# EAGLE library part PIC16F1828 (library _mtvl_ic)
PIC16F1828 20-Pin Flash Microcontrollers with nanoWatt Technology
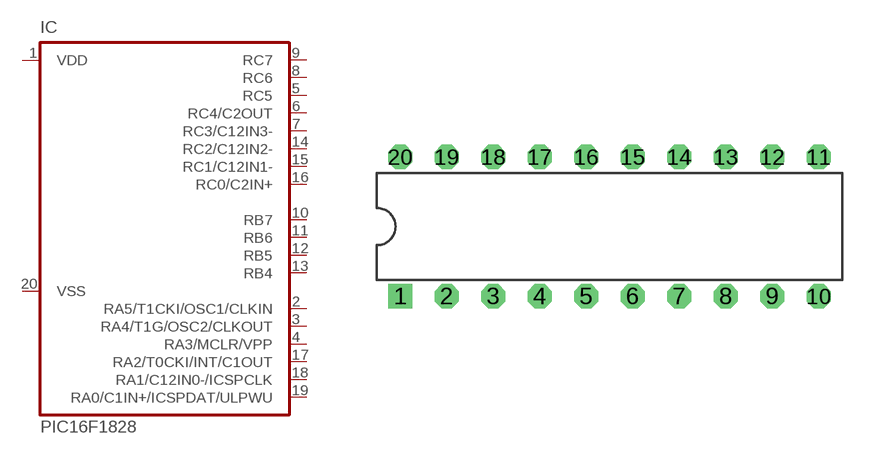
[diagram p30: symbol with the pads of DIL20; footprint DIL20]

Designator prefix IC

## PIC16F1828IP  [DIL20]
1  VDD  pwr
2  RA5/T1CKI/OSC1/CLKIN
3  RA4/T1G/OSC2/CLKOUT
4  RA3/MCLR/VPP
5  RC5
6  RC4/C2OUT
7  RC3/C12IN3-
8  RC6
9  RC7
10  RB7
11  RB6
12  RB5
13  RB4
14  RC2/C12IN2-
15  RC1/C12IN1-
16  RC0/C2IN+
17  RA2/T0CKI/INT/C1OUT
18  RA1/C12IN0-/ICSPCLK
19  RA0/C1IN+/ICSPDAT/ULPWU
20  VSS  pwr

## Footprint DIL20 (pad centres in mm)
DIL-20
drill 0.813 square: 1 -11.43,-3.81
drill 0.813 octagon: 2 -8.89,-3.81; 3 -6.35,-3.81; 4 -3.81,-3.81; 5 -1.27,-3.81; 6 1.27,-3.81; 7 3.81,-3.81; 8 6.35,-3.81; 9 8.89,-3.81; 10 11.43,-3.81; 11 11.43,3.81; 12 8.89,3.81; 13 6.35,3.81; 14 3.81,3.81; 15 1.27,3.81; 16 -1.27,3.81; 17 -3.81,3.81; 18 -6.35,3.81; 19 -8.89,3.81; 20 -11.43,3.81